# Altium schematic symbol library SCH - MCU - ATMEGA - MICROCHIP ATMEGA1280-16CU CBGA100.SchLib: 1 symbol
Pins are listed as number, name and electrical type; pins without a type are passive.

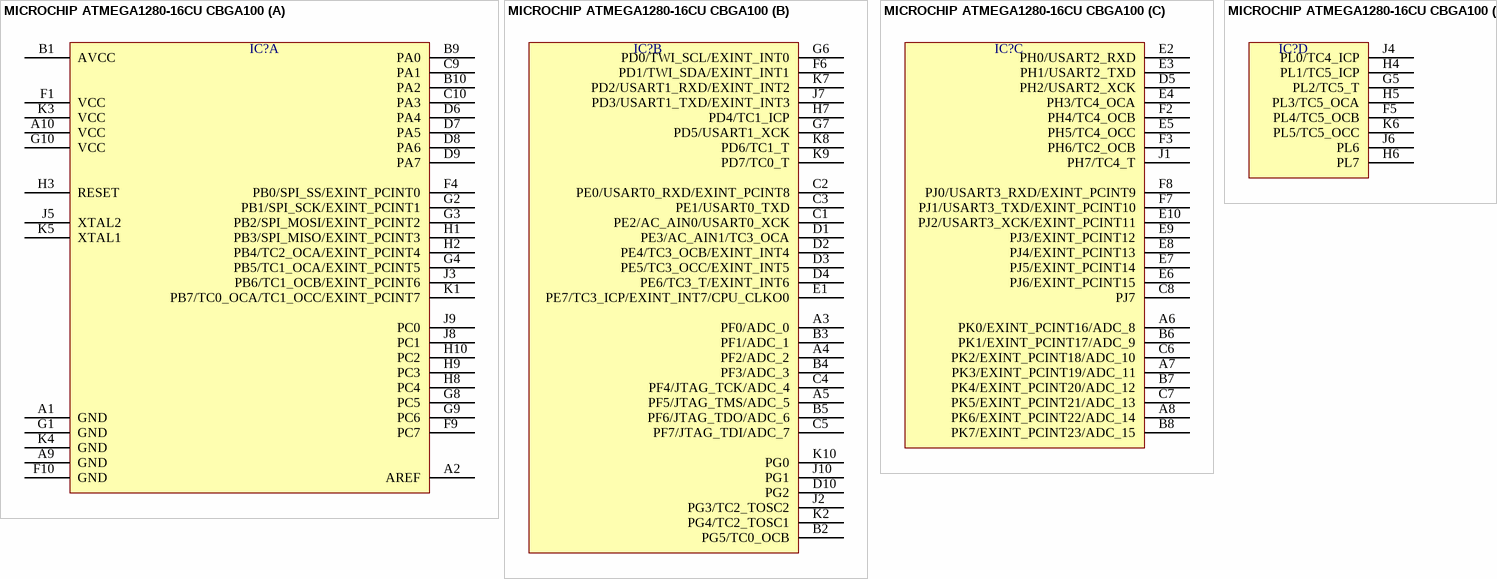
[diagram p0: symbol MICROCHIP ATMEGA1280-16CU CBGA100]

## MICROCHIP ATMEGA1280-16CU CBGA100
designator IC?  (value not drawn)
part A pins: A1 GND, A2 AREF, A9 GND, A10 VCC, B1 AVCC, B9 PA0, B10 PA2, C9 PA1, C10 PA3, D6 PA4, D7 PA5, D8 PA6, D9 PA7, F1 VCC, F4 PB0/SPI_SS/EXINT_PCINT0, F9 PC7, F10 GND, G1 GND, G2 PB1/SPI_SCK/EXINT_PCINT1, G3 PB2/SPI_MOSI/EXINT_PCINT2, G4 PB5/TC1_OCA/EXINT_PCINT5, G8 PC5, G9 PC6, G10 VCC, H1 PB3/SPI_MISO/EXINT_PCINT3, H2 PB4/TC2_OCA/EXINT_PCINT4, H3 RESET, H8 PC4, H9 PC3, H10 PC2, J3 PB6/TC1_OCB/EXINT_PCINT6, J5 XTAL2, J8 PC1, J9 PC0, K1 PB7/TC0_OCA/TC1_OCC/EXINT_PCINT7, K3 VCC, K4 GND, K5 XTAL1
part B pins: A3 PF0/ADC_0, A4 PF2/ADC_2, A5 PF5/JTAG_TMS/ADC_5, B2 PG5/TC0_OCB, B3 PF1/ADC_1, B4 PF3/ADC_3, B5 PF6/JTAG_TDO/ADC_6, C1 PE2/AC_AIN0/USART0_XCK, C2 PE0/USART0_RXD/EXINT_PCINT8, C3 PE1/USART0_TXD, C4 PF4/JTAG_TCK/ADC_4, C5 PF7/JTAG_TDI/ADC_7, D1 PE3/AC_AIN1/TC3_OCA, D2 PE4/TC3_OCB/EXINT_INT4, D3 PE5/TC3_OCC/EXINT_INT5, D4 PE6/TC3_T/EXINT_INT6, D10 PG2, E1 PE7/TC3_ICP/EXINT_INT7/CPU_CLKO0, F6 PD1/TWI_SDA/EXINT_INT1, G6 PD0/TWI_SCL/EXINT_INT0, G7 PD5/USART1_XCK, H7 PD4/TC1_ICP, J2 PG3/TC2_TOSC2, J7 PD3/USART1_TXD/EXINT_INT3, J10 PG1, K2 PG4/TC2_TOSC1, K7 PD2/USART1_RXD/EXINT_INT2, K8 PD6/TC1_T, K9 PD7/TC0_T, K10 PG0
part C pins: A6 PK0/EXINT_PCINT16/ADC_8, A7 PK3/EXINT_PCINT19/ADC_11, A8 PK6/EXINT_PCINT22/ADC_14, B6 PK1/EXINT_PCINT17/ADC_9, B7 PK4/EXINT_PCINT20/ADC_12, B8 PK7/EXINT_PCINT23/ADC_15, C6 PK2/EXINT_PCINT18/ADC_10, C7 PK5/EXINT_PCINT21/ADC_13, C8 PJ7, D5 PH2/USART2_XCK, E2 PH0/USART2_RXD, E3 PH1/USART2_TXD, E4 PH3/TC4_OCA, E5 PH5/TC4_OCC, E6 PJ6/EXINT_PCINT15, E7 PJ5/EXINT_PCINT14, E8 PJ4/EXINT_PCINT13, E9 PJ3/EXINT_PCINT12, E10 PJ2/USART3_XCK/EXINT_PCINT11, F2 PH4/TC4_OCB, F3 PH6/TC2_OCB, F7 PJ1/USART3_TXD/EXINT_PCINT10, F8 PJ0/USART3_RXD/EXINT_PCINT9, J1 PH7/TC4_T
part D pins: F5 PL4/TC5_OCB, G5 PL2/TC5_T, H4 PL1/TC5_ICP, H5 PL3/TC5_OCA, H6 PL7, J4 PL0/TC4_ICP, J6 PL6, K6 PL5/TC5_OCC